# Altium footprint library PcbLib2.PcbLib: 1 footprints
Each footprint in its own frame and in the unit in brackets; x right, y up, seen from the top. Pads: shape width x height; smd on the part's side, far side on the other; paste and mask are expansions set on the pad; w line width, h text height; cw(c..) or ccw(c..) is an arc to the next point about the centre after c.
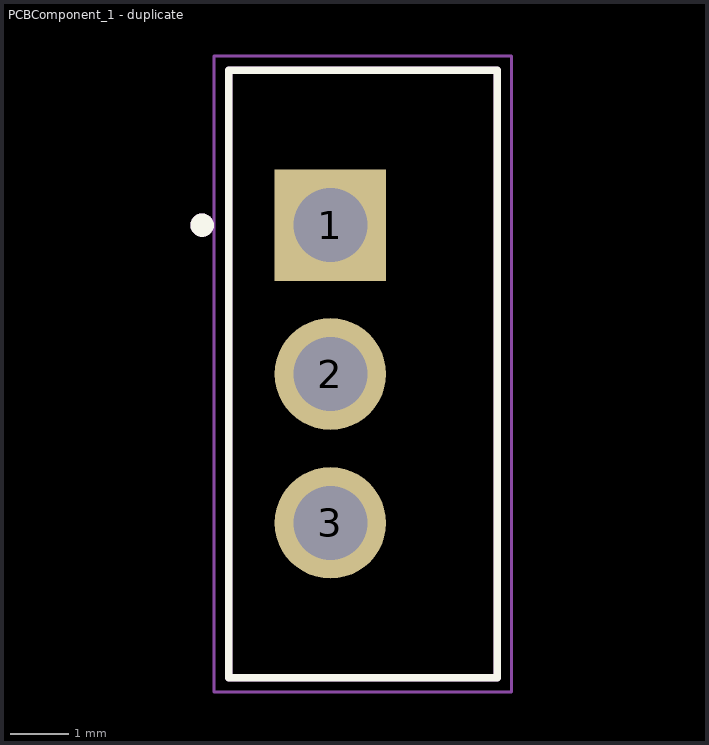
[diagram p0: the footprint, top view; thin cyan lines are the x and y axes]

## PCBComponent_1 - duplicate [mm]
pads (3):
  rect 1.91x1.91 / inner round 1.91 / far side rect 1.91x1.91 hole 1.27: 1(9.271,-10.414)
  round 1.91 hole 1.27: 2(9.271,-12.964) 3(9.271,-15.514)
Top Overlay:
  circle w0.2: c7.076,-10.414 r0.1
  lines w0.127: 7.531,-18.164 12.131,-18.164 12.131,-7.764 7.531,-7.764 7.531,-18.164
Mechanical 13:
  circle w0.2: c7.076,-10.414 r0.1
  lines w0.127: 7.531,-18.164 12.131,-18.164 12.131,-7.764 7.531,-7.764 7.531,-18.164
Mechanical 15:
  lines w0.05: 7.281,-18.414 12.377,-18.414 12.377,-7.514 7.281,-7.514 7.281,-18.414
3D body "step_temp.STEP": height 19.68, standoff -10.34, extent 7.62,-17.97 12.065,-8.001